# EAGLE library part STBC08 (library balto)
800 mA standalone linear Li-Ion battery charger with thermal regulation
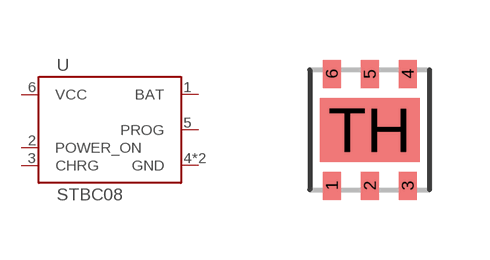
[diagram p52: symbol with the pads of DFN6-3X3; footprint DFN6-3X3]

Designator prefix U

## STBC08  [DFN6-3X3]
1  BAT
2  POWER_ON
3  CHRG
4  GND
5  PROG
6  VCC
TH  GND

## Footprint DFN6-3X3 (pad centres in mm)
3x3mm DFN-6
smd 0.45 x 0.7: 1 -0.95,-1.4; 2 0,-1.4; 3 0.95,-1.4; 4 0.95,1.4; 5 0,1.4; 6 -0.95,1.4
smd 2.5 x 1.6: TH 0,0